# Altium schematic symbol library STC.SchLib: 1 symbol
Pins are listed as number, name and electrical type; pins without a type are passive.

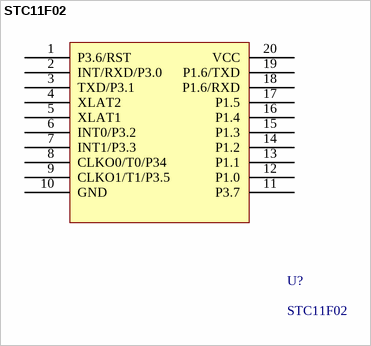
[diagram p0: symbol STC11F02]

## STC11F02
designator U?
pins: 1 P3.6/RST, 2 INT/RXD/P3.0, 3 TXD/P3.1, 4 XLAT2, 5 XLAT1, 6 INT0/P3.2, 7 INT1/P3.3, 8 CLKO0/T0/P34, 9 CLKO1/T1/P3.5, 10 GND, 11 P3.7, 12 P1.0, 13 P1.1, 14 P1.2, 15 P1.3, 16 P1.4, 17 P1.5, 18 P1.6/RXD, 19 P1.6/TXD, 20 VCC